# Altium footprint library UCB1VR22MCL1GS.PcbLib: 3 footprints
Each footprint in its own frame and in the unit in brackets; x right, y up, seen from the top. Pads: shape width x height; smd on the part's side, far side on the other; paste and mask are expansions set on the pad; w line width, h text height; cw(c..) or ccw(c..) is an arc to the next point about the centre after c.
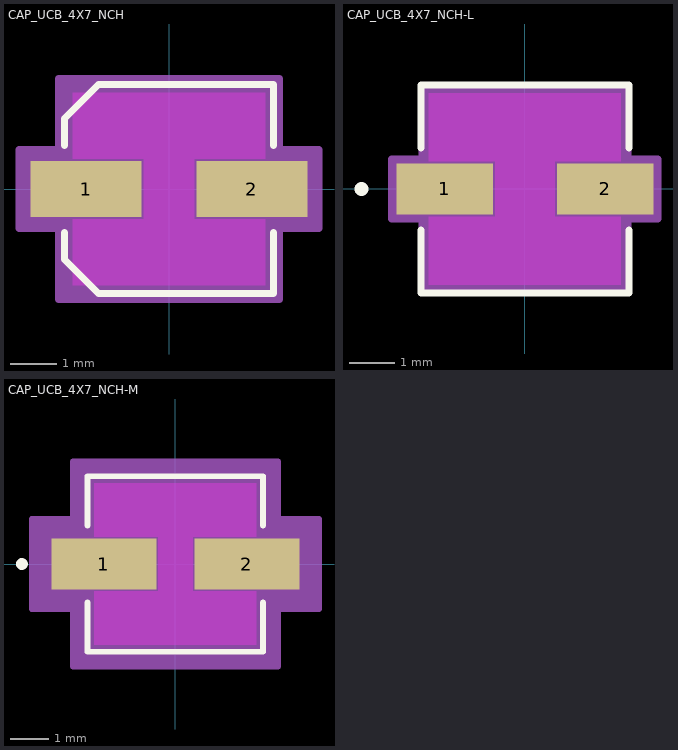
[diagram p0: the footprints below, top view; thin cyan lines are the x and y axes]

## CAP_UCB_4X7_NCH [mil]
pads (2):
  rect 95x48 smd paste+0 mask+0: 1(-71,0) 2(71,0)
Top Layer keep-out:
  region: -21.5,-26 -21.5,26 21.5,26 21.5,-26
  region: -82.5,26 -82.5,82.5 82.5,82.5 82.5,26
  region: -82.5,-82.5 -82.5,-26 82.5,-26 82.5,-82.5
Top Overlay:
  lines w6: -89.5,-37.1 -89.5,-60.5 -60.5,-89.5 89.5,-89.5 89.5,-37.1 ; -89.5,37.1 -89.5,60.28 -60.28,89.5 89.5,89.5 89.5,37.1
Keep-Out Layer:
  region: -21.5,-26 -21.5,26 21.5,26 21.5,-26
Mechanical 13:
  lines w1: -84.5,-42.25 -42.25,-84.5 ; -84.5,42.25 -42.25,84.5 ; -84.5,-84.5 84.5,-84.5 84.5,84.5 -84.5,84.5 -84.5,-84.5
Mechanical 15:
  region: -94.5,-34 -128.5,-34 -128.5,34 -94.5,34 -94.5,94.5 94.5,94.5 94.5,34 128.5,34 128.5,-34 94.5,-34 94.5,-94.5 -94.5,-94.5
  lines w6: -128.5,-34 -128.5,34 -94.5,34 -94.5,94.5 94.5,94.5 94.5,34 128.5,34 128.5,-34 94.5,-34 94.5,-94.5 -94.5,-94.5 -94.5,-34 -128.5,-34
3D body "CAP_UCB_4X7_NCH.step": height 289.09, standoff 0, extent -98.5,-84.49 98.5,84.49

## CAP_UCB_4X7_NCH-L [mil]
pads (2):
  rect 83x44 smd paste+0 mask+0: 1(-69,0) 2(69,0)
Top Layer keep-out:
  region: -25.5,-24 -25.5,24 25.5,24 25.5,-24
  region: -82.5,24 -82.5,82.5 82.5,82.5 82.5,24
  region: -82.5,-82.5 -82.5,-24 82.5,-24 82.5,-82.5
Top Overlay:
  circle w6: c-140.5,0 r3
  lines w6: -89.5,-35.1 -89.5,-89.5 89.5,-89.5 89.5,-35.1 ; -89.5,35.1 -89.5,89.5 89.5,89.5 89.5,35.1
  text ".Designator" at -137.5,-25 h50
Keep-Out Layer:
  region: -25.5,-24 -25.5,24 25.5,24 25.5,-24
Mechanical 13:
  circle w1: c-64.5,0 r3
  lines w1: -84.5,-42.25 -42.25,-84.5 ; -84.5,42.25 -42.25,84.5 ; -84.5,-84.5 84.5,-84.5 84.5,84.5 -84.5,84.5 -84.5,-84.5
  text ".Designator" at -137.5,-25 h50
Mechanical 15:
  region: -88.5,-26 -114.5,-26 -114.5,26 -88.5,26 -88.5,88.5 88.5,88.5 88.5,26 114.5,26 114.5,-26 88.5,-26 88.5,-88.5 -88.5,-88.5
  lines w6: -114.5,-26 -114.5,26 -88.5,26 -88.5,88.5 88.5,88.5 88.5,26 114.5,26 114.5,-26 88.5,-26 88.5,-88.5 -88.5,-88.5 -88.5,-26 -114.5,-26
3D body "CAP_UCB_4X7_NCH.step": height 289.09, standoff 0, extent -98.5,-84.49 98.5,84.49

## CAP_UCB_4X7_NCH-M [mil]
pads (2):
  rect 107x52 smd paste+0 mask+0: 1(-73,0) 2(73,0)
Top Layer keep-out:
  region: -17.5,-28 -17.5,28 17.5,28 17.5,-28
  region: -82.5,28 -82.5,82.5 82.5,82.5 82.5,28
  region: -82.5,-82.5 -82.5,-28 82.5,-28 82.5,-82.5
Top Overlay:
  circle w6: c-156.5,0 r3
  lines w6: -89.5,-39.1 -89.5,-89.5 89.5,-89.5 89.5,-39.1 ; -89.5,39.1 -89.5,89.5 89.5,89.5 89.5,39.1
  text ".Designator" at -137.5,-25 h50
Keep-Out Layer:
  region: -17.5,-28 -17.5,28 17.5,28 17.5,-28
Mechanical 13:
  circle w1: c-64.5,0 r3
  lines w1: -84.5,-42.25 -42.25,-84.5 ; -84.5,42.25 -42.25,84.5 ; -84.5,-84.5 84.5,-84.5 84.5,84.5 -84.5,84.5 -84.5,-84.5
  text ".Designator" at -137.5,-25 h50
Mechanical 15:
  region: -104.5,-46 -146.5,-46 -146.5,46 -104.5,46 -104.5,104.5 104.5,104.5 104.5,46 146.5,46 146.5,-46 104.5,-46 104.5,-104.5 -104.5,-104.5
  lines w6: -146.5,-46 -146.5,46 -104.5,46 -104.5,104.5 104.5,104.5 104.5,46 146.5,46 146.5,-46 104.5,-46 104.5,-104.5 -104.5,-104.5 -104.5,-46 -146.5,-46
3D body "CAP_UCB_4X7_NCH.step": height 289.09, standoff 0, extent -98.5,-84.49 98.5,84.49